# EAGLE library part AD8041ANZ (library lib_test)
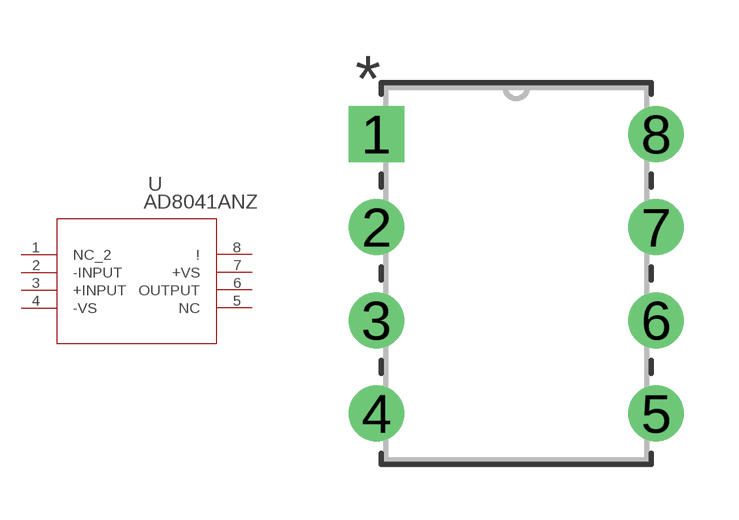
[diagram p5: symbol with the pads of N_8_ADI; footprint N_8_ADI]

Designator prefix U

## AD8041ANZ (BUILT_BY: EMA_UL_Team; MANUFACTURER_PART_NUMBER: AD8041ANZ; SOURCELIBRARY: Analog_2012-01-01_5; VENDOR: Analog Devices Inc)  [N_8_ADI]
1  NC_2  pas
2  -INPUT  pas
3  +INPUT  pas
4  -VS  pwr
5  NC  pas
6  OUTPUT  pas
7  +VS  pwr
8  !  pas

## Footprint N_8_ADI (pad centres in mm)
drill 0.813 pad 1.524 square: 1 0,0
drill 0.813 pad 1.524: 2 0,-2.54; 3 0,-5.08; 4 0,-7.62; 5 7.62,-7.62; 6 7.62,-5.08; 7 7.62,-2.54; 8 7.62,0